# Altium footprint library 2021-03-09_02-29-56.PcbLib: 1 footprints
Each footprint in its own frame and in the unit in brackets; x right, y up, seen from the top. Pads: shape width x height; smd on the part's side, far side on the other; paste and mask are expansions set on the pad; w line width, h text height; cw(c..) or ccw(c..) is an arc to the next point about the centre after c.
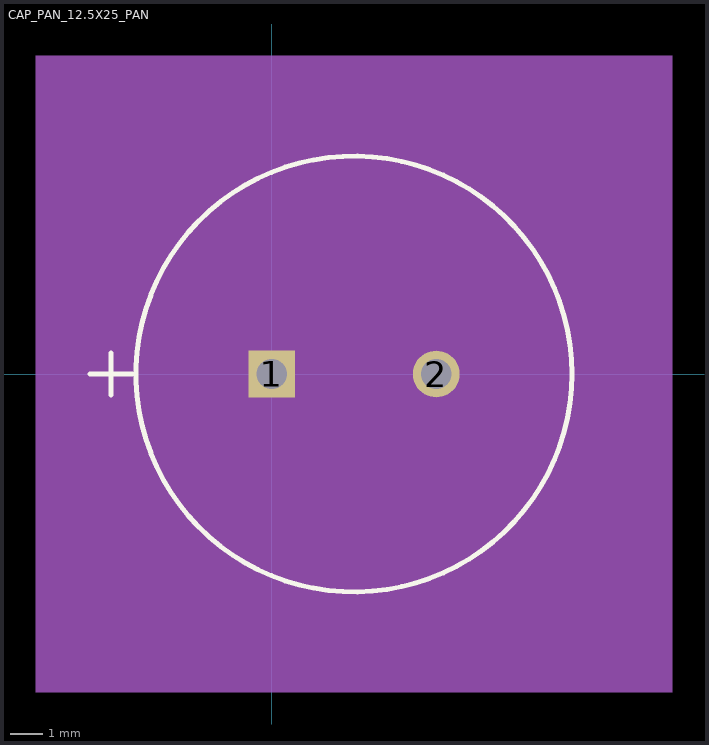
[diagram p0: the footprint, top view; thin cyan lines are the x and y axes]

## CAP_PAN_12.5X25_PAN [mil]
pads (2):
  rect 56x56 hole 36 mask+0: 1(0,0)
  round 56 hole 36 mask+0: 2(197,0)
Top Overlay:
  circle w6: c98.5,0 r261
  lines w6: -217.5,0 -167.5,0 ; -192.5,-25 -192.5,25
Mechanical 5:
  region: 479.5,-381 -282.5,-381 -282.5,381 479.5,381
Mechanical 7:
  lines w1: -157.5,0 -157.5,321 ; 0,-321 0,0 ; 98.5,-256 419.5,-256 ; 98.5,256 419.5,256 ; 197,-321 197,0 ; 354.5,0 354.5,321 ; -157.5,306 354.5,306 ; -157.5,306 -147.5,311 -147.5,301 -157.5,306 ; 0,-306 197,-306 ; 0,-306 10,-301 10,-311 0,-306 ; 197,-306 187,-301 187,-311 197,-306 ; 354.5,306 344.5,311 344.5,301 354.5,306 ; 404.5,-256 404.5,256 ; 404.5,-256 399.5,-246 409.5,-246 404.5,-256 ; 404.5,256 399.5,246 409.5,246 404.5,256
  text "Pin 1 Pad Style: SX56Y56D36P" at -251.5,-456 h50
  text "Default Pad Style: EX56Y56D36P" at -276.5,-531 h50
  text "Alt 1 Pad Style: OX60Y90D30P" at -251.5,-606 h50
  text "Alt 2 Pad Style: OX90Y60D30P" at -251.5,-681 h50
  text "0.197in/5.004mm" at 4.75,-351 h25
  text "0.512in/13.005mm" at -1.5,326 h25
  text "0.512in/13.005mm" at 424.5,-12.5 h25
Mechanical 13:
  circle w0: c98.5,0 r256
  lines w1: -217.5,0 -167.5,0 ; -192.5,-25 -192.5,25
Mechanical 15:
  region: -167.5,109.53 -11.03,266 208.03,266 364.5,109.53 364.5,-109.53 208.03,-266 -11.03,-266 -167.5,-109.53
  lines w1: -167.5,-109.53 -11.03,-266 208.03,-266 364.5,-109.53 364.5,109.53 208.03,266 -11.03,266 -167.5,109.53 -167.5,-109.53
3D body: height 10, standoff 0, extent 0,0 10,10